# Altium footprint library TEST&JUMPER.PcbLib: 74 footprints (part 2 of 5)
Each footprint in its own frame and in the unit in brackets; x right, y up, seen from the top. Pads: shape width x height; smd on the part's side, far side on the other; paste and mask are expansions set on the pad; w line width, h text height; cw(c..) or ccw(c..) is an arc to the next point about the centre after c.
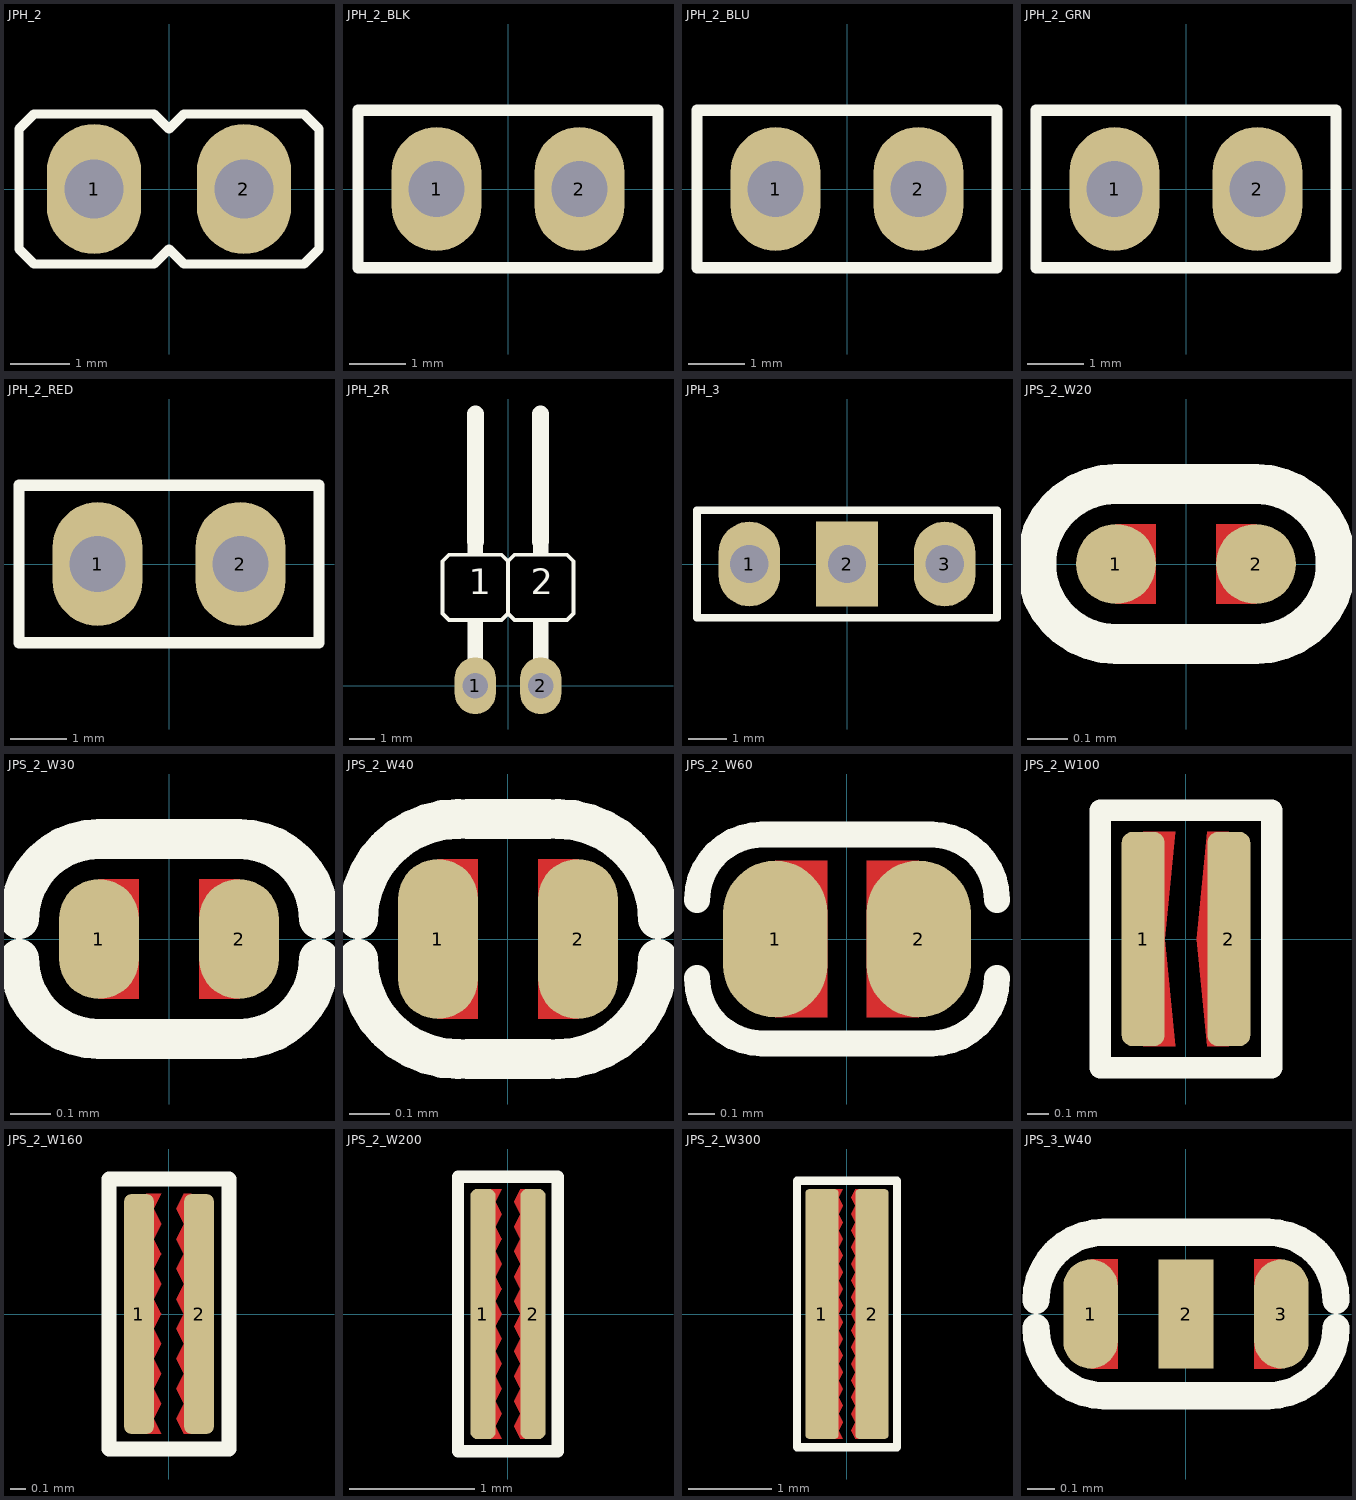
[diagram p1: the footprints below, top view; thin cyan lines are the x and y axes]

## JPH_2 [mm] "Jumper Header 2.54mm Pitch, Vertical"
height 10
pads (2):
  oval 1.6x2.2 hole 1: 1(-1.27,0) 2(1.27,0)
Top Overlay:
  lines w0.152: -2.54,-1.016 -2.286,-1.27 -0.254,-1.27 0,-1.016 0.254,-1.27 2.286,-1.27 2.54,-1.016 2.54,1.016 2.286,1.27 0.254,1.27 0,1.016 -0.254,1.27 -2.286,1.27 -2.54,1.016 -2.54,-1.016
3D body "pin_header_aw140-eg-g02d.stp": height 8.2, standoff -3, extent -2.44,-1.25 2.54,1.25

## JPH_2_BLK [mm] "Jumper Header 2.54mm Pitch, Vertical, BLACK"
height 7.62
pads (2):
  oval 1.6x2.2 hole 1: 1(-1.27,0) 2(1.27,0)
Top Overlay:
  lines w0.2: -2.67,-1.4 -2.67,1.4 2.67,1.4 2.67,-1.4 -2.67,-1.4
3D body "header02.STEP": height 8.38, standoff -2.54, extent -2.54,-1.27 2.54,1.27
3D body "jumper_akspt_g-red.STEP": height 8.57, standoff 2.6, extent -2.49,-1.22 2.49,1.22

## JPH_2_BLU [mm] "Jumper Header 2.54mm Pitch, Vertical, BLUE"
pads (2):
  oval 1.6x2.2 hole 1: 1(-1.27,0) 2(1.27,0)
Top Overlay:
  lines w0.2: -2.67,-1.4 -2.67,1.4 2.67,1.4 2.67,-1.4 -2.67,-1.4
3D body "header02.STEP": height 8.38, standoff -2.54, extent -2.54,-1.27 2.54,1.27
3D body "jumper_akspt_z-blue.STEP": height 8.57, standoff 2.6, extent -2.49,-1.22 2.49,1.22

## JPH_2_GRN [mm] "Jumper Header 2.54mm Pitch, Vertical, GREEN"
height 7.62
pads (2):
  oval 1.6x2.2 hole 1: 1(-1.27,0) 2(1.27,0)
Top Overlay:
  lines w0.2: -2.67,-1.4 -2.67,1.4 2.67,1.4 2.67,-1.4 -2.67,-1.4
3D body "header02.STEP": height 8.38, standoff -2.54, extent -2.54,-1.27 2.54,1.27
3D body "jumper_akspt_g-red.STEP": height 8.57, standoff 2.6, extent -2.49,-1.22 2.49,1.22

## JPH_2_RED [mm] "Jumper Header 2.54mm Pitch, Vertical, RED"
pads (2):
  oval 1.6x2.2 hole 1: 1(-1.27,0) 2(1.27,0)
Top Overlay:
  lines w0.2: -2.67,-1.4 2.67,-1.4 2.67,1.4 -2.67,1.4 -2.67,-1.4
3D body "jumper_akspt_g-red.STEP": height 8.57, standoff 2.6, extent -2.49,-1.22 2.49,1.22
3D body "header02.STEP": height 8.38, standoff -2.54, extent -2.54,-1.27 2.54,1.27

## JPH_2R [mm] "Jumper Header 2.54mm Pitch, Horizontal"
pads (2):
  oval 1.6x2.2 hole 1: 1(-1.27,0) 2(1.27,0)
Top Overlay:
  rectangle: -1.575,5.08 -0.965,5.588
  rectangle: 0.965,5.08 1.575,5.588
  rectangle: 0.965,1.016 1.575,2.54
  rectangle: -1.575,1.016 -0.965,2.54
  lines w0.152: 0,2.794 -0.254,2.54 -2.286,2.54 -2.54,2.794 -2.54,4.826 -2.286,5.08 -0.254,5.08 0,4.826 ; 0,2.794 0.254,2.54 2.286,2.54 2.54,2.794 2.54,4.826 2.286,5.08 0.254,5.08 0,4.826 ; 0,2.794 0,4.826
  lines w0.66: -1.27,5.588 -1.27,10.541 ; 1.27,5.588 1.27,10.541
  text "2" at 0.889,3.556 h0.99
  text "1" at -1.524,3.556 h0.99
3D body "pin_header_aw140-ea-g02g.stp": height 2.55, standoff -2.35, extent -2.44,-0.329 2.44,10.811

## JPH_3 [mm] "Jumper Header 2.54mm Pitch, 3PIN, Vertical"
pads (3):
  oval 1.6x2.2 hole 1: 1(-2.54,0) 3(2.54,0)
  rect 1.6x2.2 hole 1: 2(0,0)
Top Overlay:
  lines w0.2: -3.9,-1.4 3.9,-1.4 3.9,1.4 -3.9,1.4 -3.9,-1.4
3D body "jumper_akspt_g-red.STEP": height 8.57, standoff 2.6, extent -3.76,-1.22 1.22,1.22
3D body "Header3.STEP": height 8.38, standoff -2.54, extent -3.82,-1.27 3.8,1.27

## JPS_2_W20 [mm] "JUMPER SOLDER 0.2X0.5MM"
height 0.6
pads (2):
  round 0.2 smd paste-2 mask+0.05: 1(-0.175,0) 2(0.175,0)
Top Layer:
  region: 0.175,0.1 0.075,0.1 0.075,-0.1 0.175,-0.1
  region: -0.175,0.1 -0.075,0.1 -0.075,-0.1 -0.175,-0.1
Top Overlay:
  lines w0.1: -0.175,-0.2 cw(c-0.175,0) -0.175,0.2 0.175,0.2 cw(c0.175,0) 0.175,-0.2 -0.175,-0.2

## JPS_2_W30 [mm] "JUMPER SOLDER 0.3X0.5MM"
height 0.6
pads (2):
  oval 0.2x0.3 smd paste-2 mask+0.05: 1(-0.175,0) 2(0.175,0)
Top Layer:
  region: -0.175,0.15 -0.075,0.15 -0.075,-0.15 -0.175,-0.15
  region: 0.175,0.15 0.075,0.15 0.075,-0.15 0.175,-0.15
Top Overlay:
  lines w0.1: -0.375,-0.05 ccw(c-0.175,-0.05) -0.175,-0.25 0.175,-0.25 ccw(c0.175,-0.05) 0.375,-0.05 ; -0.375,0.05 cw(c-0.175,0.05) -0.175,0.25 0.175,0.25 cw(c0.175,0.05) 0.375,0.05
Top Solder:
  region: -0.15,-0.2 -0.15,0.2 0.15,0.2 0.15,-0.2

## JPS_2_W40 [mm] "JUMPER SOLDER 0.4X0.5MM"
height 0.6
pads (2):
  oval 0.2x0.4 smd paste-2 mask+0.05: 1(-0.175,0) 2(0.175,0)
Top Layer:
  region: 0.175,0.2 0.075,0.2 0.075,-0.2 0.175,-0.2
  region: -0.175,0.2 -0.075,0.2 -0.075,-0.2 -0.175,-0.2
Top Overlay:
  lines w0.1: -0.375,-0.05 ccw(c-0.125,-0.05) -0.125,-0.3 ; -0.375,0.05 cw(c-0.125,0.05) -0.125,0.3 ; -0.1,-0.3 0.1,-0.3 ; -0.1,0.3 0.1,0.3 ; 0.125,-0.3 ccw(c0.125,-0.05) 0.375,-0.05 ; 0.125,0.3 cw(c0.125,0.05) 0.375,0.05
Top Solder:
  region: -0.15,-0.25 -0.15,0.25 0.15,0.25 0.15,-0.25

## JPS_2_W60 [mm] "JUMPER SOLDER 0.6X0.5MM"
height 0.6
pads (2):
  oval 0.4x0.6 smd paste-2 mask+0.05: 1(-0.275,0) 2(0.275,0)
Top Layer:
  region: 0.275,0.3 0.075,0.3 0.075,-0.3 0.275,-0.3
  region: -0.275,0.3 -0.075,0.3 -0.075,-0.3 -0.275,-0.3
Top Overlay:
  lines w0.1: -0.575,-0.15 ccw(c-0.325,-0.15) -0.325,-0.4 0.325,-0.4 ccw(c0.325,-0.15) 0.575,-0.15 ; -0.575,0.15 cw(c-0.325,0.15) -0.325,0.4 0.325,0.4 cw(c0.325,0.15) 0.575,0.15
Top Solder:
  region: -0.275,-0.35 -0.275,0.35 0.275,0.35 0.275,-0.35

## JPS_2_W100 [mm] "JUMPER SOLDER 1X0.6MM"
height 0.6
pads (2):
  rrect50% 0.2x1 smd paste-2 mask+0.05: 1(-0.2,0) 2(0.2,0)
Top Layer:
  region: 0.1,0.5 0.05,0 0.1,-0.5 0.2,-0.5 0.2,0.5
  region: -0.2,0.5 -0.05,0.5 -0.1,0 -0.05,-0.5 -0.2,-0.5
Top Overlay:
  lines w0.1: -0.4,-0.6 -0.4,0.6 0.4,0.6 0.4,-0.6 -0.4,-0.6
Top Solder:
  region: -0.2,-0.55 -0.2,0.55 0.2,0.55 0.2,-0.55

## JPS_2_W160 [mm] "JUMPER SOLDER 1.6X0.6MM"
height 0.6
pads (2):
  rrect50% 0.2x1.6 smd paste-3 mask+0.05: 1(-0.2,0) 2(0.2,0)
Top Layer:
  region: -0.05,0.8 -0.15,0.8 -0.15,0.6 -0.05,0.6 -0.1,0.7
  region: 0.1,0.8 0.15,0.8 0.15,0.6 0.1,0.6 0.05,0.7
  region: 0.1,0.6 0.15,0.6 0.15,0.4 0.1,0.4 0.05,0.5
  region: -0.05,0.6 -0.15,0.6 -0.15,0.4 -0.05,0.4 -0.1,0.5
  region: -0.05,0.2 -0.15,0.2 -0.15,0 -0.05,0 -0.1,0.1
  region: 0.1,0.2 0.15,0.2 0.15,0 0.1,0 0.05,0.1
  region: 0.1,0.4 0.15,0.4 0.15,0.2 0.1,0.2 0.05,0.3
  region: -0.05,0.4 -0.15,0.4 -0.15,0.2 -0.05,0.2 -0.1,0.3
  region: -0.05,-0.2 -0.15,-0.2 -0.15,-0.4 -0.05,-0.4 -0.1,-0.3
  region: 0.1,-0.2 0.15,-0.2 0.15,-0.4 0.1,-0.4 0.05,-0.3
  region: 0.1,0 0.15,0 0.15,-0.2 0.1,-0.2 0.05,-0.1
  region: -0.05,0 -0.15,0 -0.15,-0.2 -0.05,-0.2 -0.1,-0.1
  region: -0.05,-0.6 -0.15,-0.6 -0.15,-0.8 -0.05,-0.8 -0.1,-0.7
  region: 0.1,-0.6 0.15,-0.6 0.15,-0.8 0.1,-0.8 0.05,-0.7
  region: 0.1,-0.4 0.15,-0.4 0.15,-0.6 0.1,-0.6 0.05,-0.5
  region: -0.05,-0.4 -0.15,-0.4 -0.15,-0.6 -0.05,-0.6 -0.1,-0.5
Top Overlay:
  lines w0.1: -0.4,-0.9 -0.4,0.9 0.4,0.9 0.4,-0.9 -0.4,-0.9
Top Solder:
  region: -0.2,-0.85 -0.2,0.85 0.2,0.85 0.2,-0.85

## JPS_2_W200 [mm] "JUMPER SOLDER 2X0.6MM"
height 0.6
pads (2):
  rrect50% 0.2x2 smd paste-3 mask+0.05: 1(-0.2,0) 2(0.2,0)
Top Layer:
  region: -0.05,1 -0.15,1 -0.15,0.8 -0.05,0.8 -0.1,0.9
  region: 0.1,1 0.15,1 0.15,0.8 0.1,0.8 0.05,0.9
  region: 0.1,0.8 0.15,0.8 0.15,0.6 0.1,0.6 0.05,0.7
  region: -0.05,0.8 -0.15,0.8 -0.15,0.6 -0.05,0.6 -0.1,0.7
  region: -0.05,0.4 -0.15,0.4 -0.15,0.2 -0.05,0.2 -0.1,0.3
  region: 0.1,0.4 0.15,0.4 0.15,0.2 0.1,0.2 0.05,0.3
  region: 0.1,0.6 0.15,0.6 0.15,0.4 0.1,0.4 0.05,0.5
  region: -0.05,0.6 -0.15,0.6 -0.15,0.4 -0.05,0.4 -0.1,0.5
  region: -0.05,0 -0.15,0 -0.15,-0.2 -0.05,-0.2 -0.1,-0.1
  region: 0.1,0 0.15,0 0.15,-0.2 0.1,-0.2 0.05,-0.1
  region: 0.1,0.2 0.15,0.2 0.15,0 0.1,0 0.05,0.1
  region: -0.05,0.2 -0.15,0.2 -0.15,0 -0.05,0 -0.1,0.1
  region: -0.05,-0.4 -0.15,-0.4 -0.15,-0.6 -0.05,-0.6 -0.1,-0.5
  region: 0.1,-0.4 0.15,-0.4 0.15,-0.6 0.1,-0.6 0.05,-0.5
  region: 0.1,-0.2 0.15,-0.2 0.15,-0.4 0.1,-0.4 0.05,-0.3
  region: -0.05,-0.2 -0.15,-0.2 -0.15,-0.4 -0.05,-0.4 -0.1,-0.3
  region: -0.05,-0.6 -0.15,-0.6 -0.15,-0.8 -0.05,-0.8 -0.1,-0.7
  region: 0.1,-0.6 0.15,-0.6 0.15,-0.8 0.1,-0.8 0.05,-0.7
  region: 0.1,-0.8 0.15,-0.8 0.15,-1 0.1,-1 0.05,-0.9
  region: -0.05,-0.8 -0.15,-0.8 -0.15,-1 -0.05,-1 -0.1,-0.9
Top Overlay:
  lines w0.1: -0.4,-1.1 -0.4,1.1 0.4,1.1 0.4,-1.1 -0.4,-1.1
Top Solder:
  region: -0.2,-1.05 -0.2,1.05 0.2,1.05 0.2,-1.05

## JPS_2_W300 [mm] "JUMPER SOLDER 3X1MM"
height 0.6
pads (2):
  rrect25% 0.4x3 smd paste-3 mask+0.05: 1(-0.3,0) 2(0.3,0)
Top Layer:
  region: -0.05,-0.5 -0.15,-0.5 -0.15,-0.7 -0.05,-0.7 -0.1,-0.6
  region: 0.1,-0.5 0.15,-0.5 0.15,-0.7 0.1,-0.7 0.05,-0.6
  region: 0.1,-0.7 0.15,-0.7 0.15,-0.9 0.1,-0.9 0.05,-0.8
  region: -0.05,-0.7 -0.15,-0.7 -0.15,-0.9 -0.05,-0.9 -0.1,-0.8
  region: -0.05,-0.9 -0.15,-0.9 -0.15,-1.1 -0.05,-1.1 -0.1,-1
  region: 0.1,-0.9 0.15,-0.9 0.15,-1.1 0.1,-1.1 0.05,-1
  region: -0.05,-1.1 -0.15,-1.1 -0.15,-1.3 -0.05,-1.3 -0.1,-1.2
  region: 0.1,-1.1 0.15,-1.1 0.15,-1.3 0.1,-1.3 0.05,-1.2
  region: -0.05,-1.3 -0.15,-1.3 -0.15,-1.5 -0.05,-1.5 -0.1,-1.4
  region: 0.1,-1.3 0.15,-1.3 0.15,-1.5 0.1,-1.5 0.05,-1.4
  region: -0.05,0.5 -0.15,0.5 -0.15,0.3 -0.05,0.3 -0.1,0.4
  region: 0.1,0.5 0.15,0.5 0.15,0.3 0.1,0.3 0.05,0.4
  region: 0.1,0.3 0.15,0.3 0.15,0.1 0.1,0.1 0.05,0.2
  region: -0.05,0.3 -0.15,0.3 -0.15,0.1 -0.05,0.1 -0.1,0.2
  region: -0.05,0.1 -0.15,0.1 -0.15,-0.1 -0.05,-0.1 -0.1,0
  region: 0.1,0.1 0.15,0.1 0.15,-0.1 0.1,-0.1 0.05,0
  region: -0.05,-0.1 -0.15,-0.1 -0.15,-0.3 -0.05,-0.3 -0.1,-0.2
  region: 0.1,-0.1 0.15,-0.1 0.15,-0.3 0.1,-0.3 0.05,-0.2
  region: -0.05,-0.3 -0.15,-0.3 -0.15,-0.5 -0.05,-0.5 -0.1,-0.4
  region: 0.1,-0.3 0.15,-0.3 0.15,-0.5 0.1,-0.5 0.05,-0.4
  region: 0.1,0.7 0.15,0.7 0.15,0.5 0.1,0.5 0.05,0.6
  region: -0.05,0.7 -0.15,0.7 -0.15,0.5 -0.05,0.5 -0.1,0.6
  region: 0.1,0.9 0.15,0.9 0.15,0.7 0.1,0.7 0.05,0.8
  region: -0.05,0.9 -0.15,0.9 -0.15,0.7 -0.05,0.7 -0.1,0.8
  region: 0.1,1.1 0.15,1.1 0.15,0.9 0.1,0.9 0.05,1
  region: -0.05,1.1 -0.15,1.1 -0.15,0.9 -0.05,0.9 -0.1,1
  region: -0.05,1.3 -0.15,1.3 -0.15,1.1 -0.05,1.1 -0.1,1.2
  region: 0.1,1.3 0.15,1.3 0.15,1.1 0.1,1.1 0.05,1.2
  region: 0.1,1.5 0.15,1.5 0.15,1.3 0.1,1.3 0.05,1.4
  region: -0.05,1.5 -0.15,1.5 -0.15,1.3 -0.05,1.3 -0.1,1.4
Top Overlay:
  lines w0.1: -0.6,-1.6 0.6,-1.6 0.6,1.6 -0.6,1.6 -0.6,-1.6
Top Solder:
  region: -0.25,-1.55 -0.25,1.55 0.25,1.55 0.25,-1.55

## JPS_3_W40 [mm] "JUMPER SOLDER 3pin, 0.4mm width"
height 0.6
pads (3):
  oval 0.2x0.4 smd paste-0.1 mask+0.05: 1(-0.35,0) 3(0.35,0)
  rect 0.2x0.4 smd paste-0.1 mask+0.05: 2(0,0)
Top Layer:
  region: 0.35,0.2 0.25,0.2 0.25,-0.2 0.35,-0.2
  region: -0.35,0.2 -0.25,0.2 -0.25,-0.2 -0.35,-0.2
Top Overlay:
  lines w0.1: -0.55,-0.05 ccw(c-0.3,-0.05) -0.3,-0.3 0.3,-0.3 ccw(c0.3,-0.05) 0.55,-0.05 ; -0.55,0.05 cw(c-0.3,0.05) -0.3,0.3 0.3,0.3 cw(c0.3,0.05) 0.55,0.05
Top Solder:
  region: -0.35,-0.25 -0.35,0.25 0.35,0.25 0.35,-0.25